# Altium schematic symbol library DGM01.SchLib: 1 symbol
Pins are listed as number, name and electrical type; pins without a type are passive.

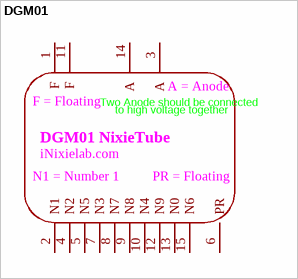
[diagram p0: symbol DGM01]

## DGM01
designator U??, comment DGM01 nixie tube  (value not drawn)
DGM01 nixie tube (iNixielab.com); Add into BOM: yes; Symbol: DGM01; Device: DGM01; Convert to PCB: yes; Comment_1: DGM01
footprint DGM01 (inixielab.com)
pins: 1 F, 2 N1, 3 A, 4 N2, 5 N5, 6 PR, 7 N3, 8 N7, 9 N8, 10 N4, 11 F, 12 N9, 13 N0, 14 A, 15 N6
text: A = Anode; F = Floating; Two Anode should be connected; to high voltage together; DGM01 NixieTube; iNixielab.com; N1 = Number 1; PR = Floating